# Altium schematic symbol library Transistor.SchLib: 1 symbol
Pins are listed as number, name and electrical type; pins without a type are passive.

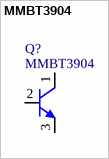
[diagram p0: symbol MMBT3904]

## MMBT3904
designator Q?
NPN Bipolar Transistor; PackageReference: TO-226; Supplier 1: Digi-Key; Supplier Part Number 1: MMBT3904FSCT-ND
simulation model NPN
signal-integrity model NPN
footprint SOT-23 (AP7333xx Package Linear Regulator)
footprint NPN socket
pins: 1, 2, 3